# EAGLE library part FAN7390 (library fairchild)
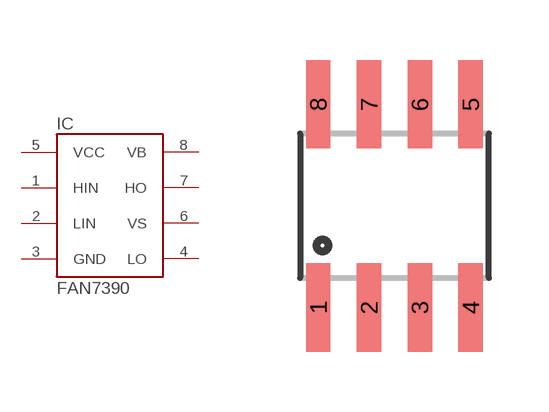
[diagram p0: symbol with the pads of SO08; footprint SO08]

Designator prefix IC

## FAN7390  [SO08]
1  HIN  in
2  LIN  in
3  GND  sup
4  LO  out
5  VCC  sup
6  VS  out
7  HO  out
8  VB  sup

## Footprint SO08 (pad centres in mm)
Small Outline Package Fits JEDEC packages (narrow SOIC-8)
smd 0.61 x 2.21: 1 -1.905,-2.54; 2 -0.635,-2.54; 3 0.635,-2.54; 4 1.905,-2.54; 5 1.905,2.54; 6 0.635,2.54; 7 -0.635,2.54; 8 -1.905,2.54